# EAGLE library part ALPS_RKJXV1224005 (library Upverter Library)
Multi-Directional Switches Stick Controller
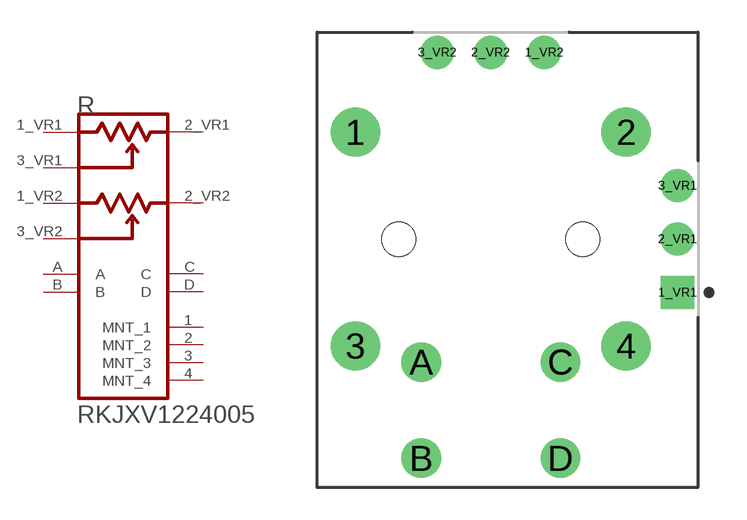
[diagram p0: symbol with the pads of ALPS_RKJXV1224005_0; footprint ALPS_RKJXV1224005_0]

Designator prefix R

## ALPS_RKJXV1224005ALPS_RKJXV1224005_0_0 (MF: ALPS; MPN: RKJXV1224005; automotive: No; centroid_not_specified: No; datasheet: https://tech.alpsalpine.com/prod/e/pdf/multicontrol/potentiometer/rkjxk/rkjxk.pdf; device_class_L1: Passive Components; device_class_L2: Resistors; device_class_L3: Variable Resistors and Potentiometers; footprint_variant_name_0: Recommended_Land_Pattern; height: 18.95mm; lead_free: Yes; mfg_package_ident: 0; mfg_package_ident_date: 0; mfg_package_ident_rev: 0; mouser_description: Multi-Directional Switches Stick Controller; mouser_part_number: 688-RKJXV1224005; package: PTH_POT_17MM8_21MM3; power_rating: 0.0125W; prefix: R; resistance: 10kΩ; rohs: Yes; series: RKJXV; temperature_range_high: +70°C; temperature_range_low: -10°C; verification_version: 0.0.0.3; voltage_rating: 12V)  [ALPS_RKJXV1224005_0]
1  MNT_1  pas
1_VR1  1_VR1  pas
1_VR2  1_VR2  pas
2  MNT_2  pas
2_VR1  2_VR1  pas
2_VR2  2_VR2  pas
3  MNT_3  pas
3_VR1  3_VR1  pas
3_VR2  3_VR2  pas
4  MNT_4
A  A  pas
B  B  pas
C  C  pas
D  D  pas

## Footprint ALPS_RKJXV1224005_0 (pad centres in mm)
Multi-Directional Switches Stick Controller
drill 1.5 pad 2.3 round: 1 -6.325,5; 2 6.325,5; 3 -6.325,-5; 4 6.325,-5
drill 1 pad 1.55 square: 1_VR1 8.73,-2.5
drill 1 pad 1.55 round: 1_VR2 2.5,8.73; 2_VR1 8.73,0; 2_VR2 0,8.73; 3_VR1 8.73,2.5; 3_VR2 -2.5,8.73
drill 1.2 pad 1.85 round: A -3.25,-5.75; B -3.25,-10.25; C 3.25,-5.75; D 3.25,-10.25
hole 1.6 at -4.3,0
hole 1.6 at 4.3,0